# Altium footprint library IC-Power-Management.PcbLib: 10 footprints
Each footprint in its own frame and in the unit in brackets; x right, y up, seen from the top. Pads: shape width x height; smd on the part's side, far side on the other; paste and mask are expansions set on the pad; w line width, h text height; cw(c..) or ccw(c..) is an arc to the next point about the centre after c.
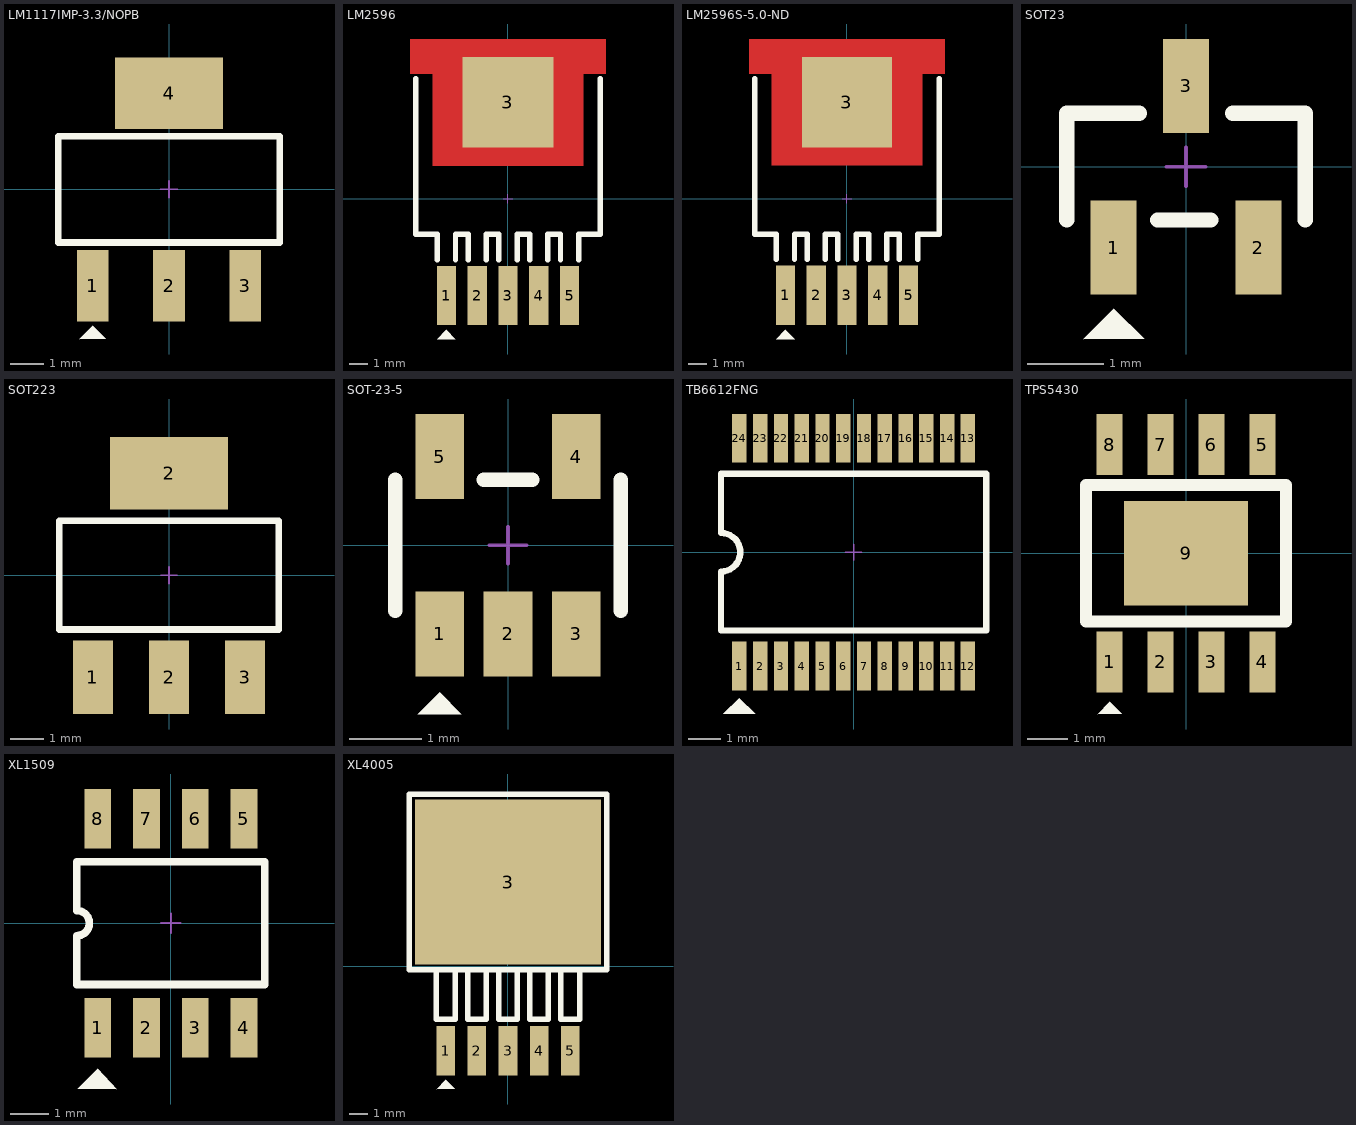
[diagram p0: the footprints below, top view; thin cyan lines are the x and y axes]

## LM1117IMP-3.3/NOPB [mm] "IC REG LINEAR 3.3V 800MA SOT223"
height 1.8
pads (4):
  rect 0.95x2.15 smd: 1(-2.3,-2.9) 2(0,-2.9) 3(2.3,-2.9)
  rect 3.25x2.15 smd: 4(0,2.9)
Top Overlay:
  region: -2.3,-4.1 -2.7,-4.5 -1.9,-4.5
  lines w0.203: -3.335,-1.6 3.335,-1.6 3.335,1.6 -3.335,1.6 -3.335,-1.6
Top HCB:
  lines w0.05: -0.254,0 0.254,0 ; 0,-0.254 0,0.254
3D body "lm1117impx-5_0_nopb.stp": height 1.68, standoff 0, extent -3.25,-3.5 3.25,3.5

## LM2596 [mm] "IC REG BUCK 3A TO263-5"
height 4.7
pads (6):
  rect 1.07x3.28 smd paste-3 mask+0.1: 1(-3.4,-5.342) 2(-1.7,-5.342) 3(0,-5.342) 4(1.7,-5.342) 5(3.4,-5.342)
  rect 5x5 smd paste-6 mask+0: 3(0,5.342)
Top Layer:
  region: -5.4,8.828 5.4,8.827 5.4,6.918 4.165,6.918 4.165,1.837 -4.165,1.838 -4.165,6.917 -5.4,6.917
Top Overlay:
  region: -3.4,-7.242 -3.4,-7.243 -3.9,-7.742 -2.9,-7.742
  lines w0.3: -5.1,6.637 -5.1,-1.963 -3.9,-1.963 -3.9,-3.363 ; -2.9,-3.363 -2.9,-1.963 -2.2,-1.963 -2.2,-3.363 ; -1.2,-3.363 -1.2,-1.963 -0.5,-1.963 -0.5,-3.363 ; 0.5,-3.363 0.5,-1.963 1.2,-1.963 1.2,-3.363 ; 2.2,-3.363 2.2,-1.963 2.9,-1.963 2.9,-3.363 ; 3.9,-3.363 3.9,-1.963 5.1,-1.963 5.1,6.637
Top HCB:
  lines w0.05: -0.254,0 0.254,0 ; 0,-0.254 0,0.254
3D body "User Library-TO263-5.STEP": height 4.83, standoff 0.03, extent -5,-6.947 5,8.723

## LM2596S-5.0-ND [mm] "IC REG BUCK 5V 3A TO263-5"
height 4.7
pads (6):
  rect 1.07x3.28 smd paste-3 mask+0.1: 1(-3.4,-5.342) 2(-1.7,-5.342) 3(0,-5.342) 4(1.7,-5.342) 5(3.4,-5.342)
  rect 5x5 smd paste-6 mask+0: 3(0,5.342)
Top Layer:
  region: -5.4,8.828 5.4,8.827 5.4,6.918 4.165,6.918 4.165,1.837 -4.165,1.838 -4.165,6.917 -5.4,6.917
Top Overlay:
  region: -3.4,-7.242 -3.913,-7.755 -2.887,-7.755
  lines w0.3: -5.1,6.637 -5.1,-1.963 -3.9,-1.963 -3.9,-3.363 ; -2.9,-3.363 -2.9,-1.963 -2.2,-1.963 -2.2,-3.363 ; -1.2,-3.363 -1.2,-1.963 -0.5,-1.963 -0.5,-3.363 ; 0.5,-3.363 0.5,-1.963 1.2,-1.963 1.2,-3.363 ; 2.2,-3.363 2.2,-1.963 2.9,-1.963 2.9,-3.363 ; 3.9,-3.363 3.9,-1.963 5.1,-1.963 5.1,6.637
Top HCB:
  lines w0.05: -0.254,0 0.254,0 ; 0,-0.254 0,0.254
3D body "User Library-TO263-5.STEP": height 4.83, standoff 0.03, extent -5,-6.947 5,8.723

## SOT23 [mm] "SOT23"
height 1.1
pads (3):
  rect 0.6x1.23 smd: 1(-0.95,-1.06) 2(0.95,-1.06) 3(0,1.06)
Top Overlay:
  region: -0.95,-1.86 -1.35,-2.26 -0.55,-2.26
  lines w0.2: -1.564,-0.7 -1.564,0.7 -0.614,0.7 ; -0.375,-0.7 0.325,-0.7 ; 0.614,0.7 1.564,0.7 1.564,-0.7
Top HCB:
  lines w0.05: -0.254,0 0.254,0 ; 0,-0.254 0,0.254
3D body "Diode_Micro_Commercial_Co_ESDA6V1L-TP_eec.STEP": height 0.25, standoff 0, extent -1.96,-2.372 1.96,2.372

## SOT223 [mil]
height 70.87
pads (4):
  rect 48x88 smd: 1(-91,-122) 2(0,-122) 3(91,-122)
  rect 141.73x86.61 smd: 2(0,122)
Top Overlay:
  lines w8: -131.3,-65 -131.3,65 131.3,65 131.3,-65 -131.3,-65
Top HCB:
  lines w1.97: -10,0 10,0 ; 0,-10 0,10
3D body "lm1117impx-5_0_nopb.stp": height 66.05, standoff 0, extent -125.98,-137.79 129.92,137.79

## SOT-23-5 [mm] "IC REG LINEAR 3.3V 300MA SOT23-5"
height 1
pads (5):
  rect 0.67x1.17 smd mask+0.07: 1(-0.94,-1.22) 2(0,-1.22) 3(0.94,-1.22) 4(0.94,1.22) 5(-0.94,1.22)
Top Overlay:
  region: -0.94,-2.02 -1.24,-2.32 -0.64,-2.32
  lines w0.2: -1.55,-0.9 -1.55,0.9 ; -0.335,0.9 0.335,0.9 ; 1.55,-0.9 1.55,0.9
Top HCB:
  lines w0.05: -0.254,0 0.254,0 ; 0,-0.254 0,0.254
3D body "CircuitWorks-SOT-23-5.STEP": height 1.1, standoff 0, extent -1.5,-1.25 1.5,1.25

## TB6612FNG [mm] "SparkFun Motor Driver - Dual TB6612FNG (1A)"
height 1.6
pads (24):
  rect 0.45x1.525 smd mask+0.05: 1(-3.575,-3.562) 2(-2.925,-3.562) 3(-2.275,-3.562) 4(-1.625,-3.562) 5(-0.975,-3.562) 6(-0.325,-3.562) 7(0.325,-3.562) 8(0.975,-3.562) 9(1.625,-3.562) 10(2.275,-3.562) 11(2.925,-3.562) 12(3.575,-3.562) 13(3.575,3.562) 14(2.925,3.562) 15(2.275,3.562) 16(1.625,3.562) 17(0.975,3.562) 18(0.325,3.562) 19(-0.325,3.562) 20(-0.975,3.562) 21(-1.625,3.562) 22(-2.275,3.562) 23(-2.925,3.562) 24(-3.575,3.562)
Top Overlay:
  region: -3.575,-4.562 -4.075,-5.062 -3.075,-5.062
  lines w0.2: -4.15,-2.45 -4.15,-0.604 ccw(c-4.15,0) -4.15,0.604 -4.15,2.45 4.15,2.45 4.15,-2.45 -4.15,-2.45
Top HCB:
  lines w0.05: -0.254,0 0.254,0 ; 0,-0.254 0,0.254
3D body "TB6612FNG,C,8,EL.stp": height 1.6, standoff 0, extent -4.15,-3.8 4.15,3.8

## TPS5430 [mm]
height 1.7
pads (9):
  rect 0.65x1.525 smd: 1(-1.905,-2.712) 2(-0.635,-2.712) 3(0.635,-2.712) 4(1.905,-2.712) 5(1.905,2.712) 6(0.635,2.712) 7(-0.635,2.712) 8(-1.905,2.712)
  rect 3.1x2.6 smd: 9(0,0)
Top Overlay:
  region: -1.905,-3.712 -2.205,-4.012 -1.605,-4.012
  lines w0.3: -2.5,-1.7 -2.5,1.7 2.5,1.7 2.5,-1.7 -2.5,-1.7 ; -2.5,-1.7 -2.5,-1.7
Top HCB:
  lines w0.05: -0.254,0 0.254,0 ; 0,-0.254 0,0.254
3D body "TPS5430DDAR.stp": height 1.7, standoff 0, extent -2.45,-3 2.45,3

## XL1509 [mm] "2A - 150KHz - 40V - Buck DC to DC"
height 1.75
pads (8):
  rect 0.7x1.55 smd: 1(-1.905,-2.725) 2(-0.635,-2.725) 3(0.635,-2.725) 4(1.905,-2.725) 5(1.905,2.725) 6(0.635,2.725) 7(-0.635,2.725) 8(-1.905,2.725)
Top Overlay:
  region: -1.905,-3.8 -2.43,-4.325 -1.405,-4.325
  lines w0.2: -2.45,-1.6 -2.45,-0.326 ccw(c-2.45,0) -2.45,0.326 -2.45,1.6 2.45,1.6 2.45,-1.6 -2.45,-1.6
Top HCB:
  lines w0.05: -0.254,0 0.254,0 ; 0,-0.254 0,0.254
3D body "TJF1051T_3.stp": height 1.75, standoff 0, extent -2.45,-3 2.45,3

## XL4005 [mm] "5A - 300KHz - Buck DC to DC Converter"
height 4.83
pads (6):
  rect 1.02x2.7 smd: 1(-3.4,-4.597) 2(-1.7,-4.597) 3(0,-4.597) 4(1.7,-4.597) 5(3.4,-4.597)
  rect 10.16x9 smd paste+0.1: 3(0.004,4.597)
Top Overlay:
  region: -3.4,-6.197 -3.9,-6.697 -2.9,-6.697
  lines w0.3: -3.91,-0.297 -3.91,-2.897 -2.89,-2.897 -2.89,-0.297 ; -2.21,-0.297 -2.21,-2.897 -1.19,-2.897 -1.19,-0.297 ; -0.506,-0.297 -0.506,-2.897 0.514,-2.897 0.514,-0.297 ; 1.19,-0.297 1.19,-2.897 2.21,-2.897 2.21,-0.297 ; 2.89,-0.297 2.89,-2.897 3.91,-2.897 3.91,-0.297 ; -5.4,-0.197 5.4,-0.197 5.4,-0.097 5.4,8.303 5.4,9.403 -5.4,9.403 -5.4,-0.097 -5.4,-0.197
Top HCB:
  lines w0.05: -0.25,4.597 0.258,4.597 ; 0.004,4.343 0.004,4.851
3D body "User Library-TO263-5.STEP": height 4.88, standoff 0.08, extent -5,-5.987 5,9.683